# Altium footprint library 7688A_59pin.PcbLib: 1 footprints
Each footprint in its own frame and in the unit in brackets; x right, y up, seen from the top. Pads: shape width x height; smd on the part's side, far side on the other; paste and mask are expansions set on the pad; w line width, h text height; cw(c..) or ccw(c..) is an arc to the next point about the centre after c.
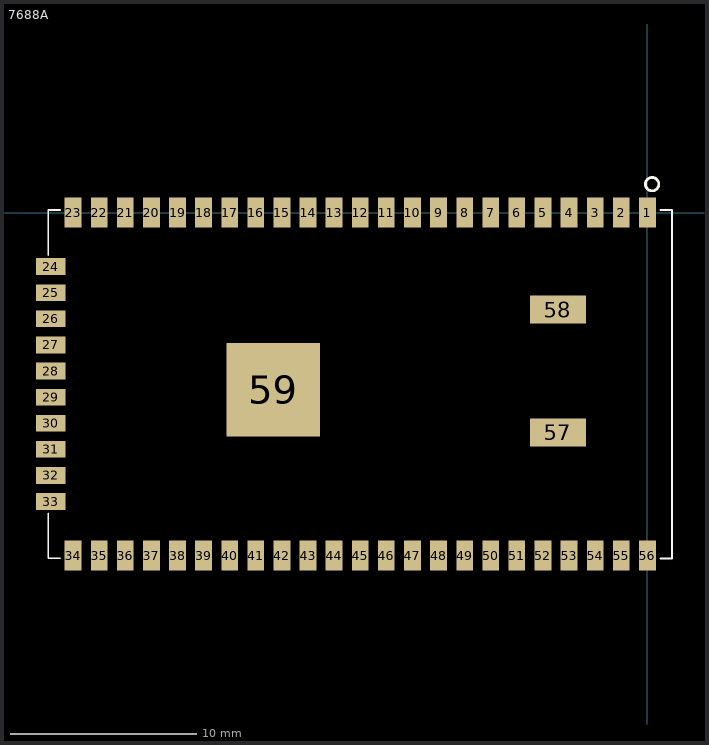
[diagram p0: the footprint, top view; thin cyan lines are the x and y axes]

## 7688A [mm]
height 2.5
pads (59):
  rect 0.9x1.6 smd: 1(0,0) 2(-1.4,0) 3(-2.8,0) 4(-4.2,0) 5(-5.6,0) 6(-7,0) 7(-8.4,0) 8(-9.8,0) 9(-11.2,0) 10(-12.6,0) 11(-14,0) 12(-15.4,0) 13(-16.8,0) 14(-18.2,0) 15(-19.6,0) 16(-21,0) 17(-22.4,0) 18(-23.8,0) 19(-25.2,0) 20(-26.6,0) 21(-28,0) 22(-29.4,0) 23(-30.8,0) 34(-30.8,-18.4) 35(-29.4,-18.4) 36(-28,-18.4) 37(-26.6,-18.4) 38(-25.2,-18.4) 39(-23.8,-18.4) 40(-22.4,-18.4) 41(-21,-18.4) 42(-19.6,-18.4) 43(-18.2,-18.4) 44(-16.8,-18.4) 45(-15.4,-18.4) 46(-14,-18.4) 47(-12.6,-18.4) 48(-11.2,-18.4) 49(-9.8,-18.4) 50(-8.4,-18.4) 51(-7,-18.4) 52(-5.6,-18.4) 53(-4.2,-18.4) 54(-2.8,-18.4) 55(-1.4,-18.4) 56(0,-18.4)
  rect 1.6x0.9 smd: 24(-32,-2.9) 25(-32,-4.3) 26(-32,-5.7) 27(-32,-7.1) 28(-32,-8.5) 29(-32,-9.9) 30(-32,-11.3) 31(-32,-12.7) 32(-32,-14.1) 33(-32,-15.5)
  rect 3x1.5 smd: 57(-4.8,-11.8) 58(-4.8,-5.2)
  rect 5x5 smd: 59(-20.066,-9.5)
Top Overlay:
  circle w0.15: c0.254,1.524 r0.359
  lines w0.1: -32.131,-16.129 -32.131,-18.542 -31.496,-18.542 ; -32.131,-2.271 -32.131,0.142 -31.496,0.142 ; 0.696,-18.557 1.331,-18.557 1.331,0.142 0.696,0.142